# Altium footprint library Connectors.PcbLib: 3 footprints
Each footprint in its own frame and in the unit in brackets; x right, y up, seen from the top. Pads: shape width x height; smd on the part's side, far side on the other; paste and mask are expansions set on the pad; w line width, h text height; cw(c..) or ccw(c..) is an arc to the next point about the centre after c.
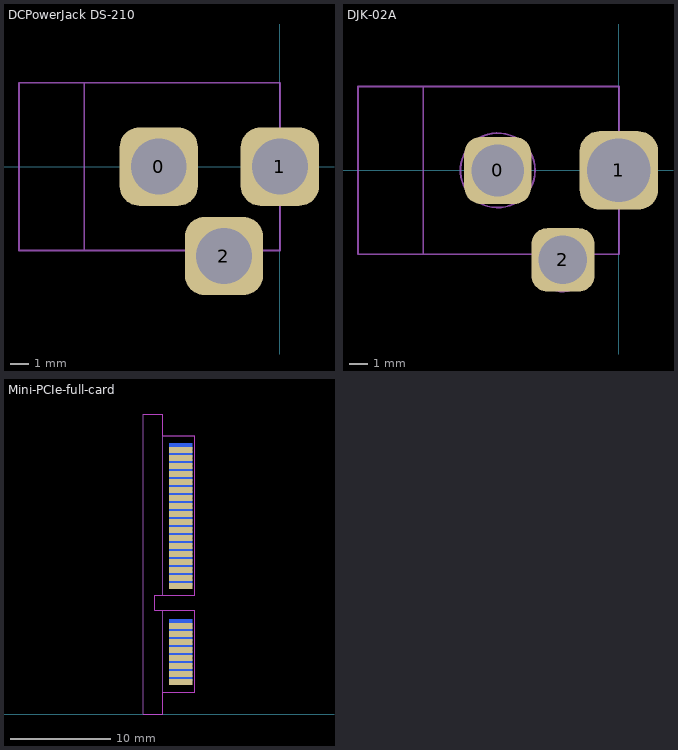
[diagram p0: the footprints below, top view; thin cyan lines are the x and y axes]

## DCPowerJack DS-210 [mm]
pads (3):
  rrect50% 4.2x4.2 hole 3: 0(-6.5,0) 1(0,0) 2(-3,-4.8)
Mechanical 1:
  lines w0.1: -10.5,-4.5 -10.5,4.5 ; -14,-4.5 -14,4.5 0,4.5 0,-4.5 -14,-4.5
Mechanical 4:
  circle w0.1: c0,0 r2
  circle w0.1: c-3,-5 r1.5
  circle w0.1: c-6.5,0 r2
Mechanical 13:
  text ".Designator" at -9.1,2.7 h1
3D body: height 6, standoff 0, extent -4.2,-5 -1.8,-4.5
3D body: height 6, standoff 0, extent 0,-1.2 0.5,1.2
3D body: height 6, standoff 0, extent -10.5,-4.5 0,4.5
3D body: height 9.97, standoff 2, extent -10.5,-3.992 0,3.992
3D body: height 8.98, standoff 3, extent -14,-2.994 -10.5,2.994
3D body: height 11, standoff 0, extent -13.9,-4.5 -10.5,4.5

## DJK-02A [mm]
pads (3):
  rrect50% 3.6x3.6 hole 2.8: 0(-6.5,0)
  rrect50% 4.2x4.2 hole 3.4: 1(0,0)
  rrect50% 3.4x3.4 hole 2.6: 2(-3,-4.8)
Mechanical 1:
  lines w0.1: -10.5,-4.5 -10.5,4.5 ; -14,-4.5 0,-4.5 0,4.5 -14,4.5 -14,-4.5
Mechanical 4:
  circle w0.1: c-6.5,0 r2
  circle w0.1: c-3,-5 r1.5
  circle w0.1: c0,0 r2
Mechanical 13:
  text ".Designator" at -9.1,2.7 h1
3D body: height 11, standoff 0, extent -13.9,-4.5 -10.5,4.5
3D body: height 8.98, standoff 3, extent -14,-2.994 -10.5,2.994
3D body: height 9.97, standoff 2, extent -10.5,-3.992 0,3.992
3D body: height 6, standoff 0, extent -10.5,-4.5 0,4.5
3D body: height 6, standoff 0, extent 0,-1.2 0.5,1.2
3D body: height 6, standoff 0, extent -4.2,-5 -1.8,-4.5

## Mini-PCIe-full-card [mm]
pads (52):
  rect 2.3x0.6 smd: 1(49.55,3.2) 3(49.55,4) 5(49.55,4.8) 7(49.55,5.6) 9(49.55,6.4) 11(49.55,7.2) 13(49.55,8) 15(49.55,8.8) 17(49.55,12.8) 19(49.55,13.6) 21(49.55,14.4) 23(49.55,15.2) 25(49.55,16) 27(49.55,16.8) 29(49.55,17.6) 31(49.55,18.4) 33(49.55,19.2) 35(49.55,20) 37(49.55,20.8) 39(49.55,21.6) 41(49.55,22.4) 43(49.55,23.2) 45(49.55,24) 47(49.55,24.8) 49(49.55,25.6) 51(49.55,26.4)
  rect 2.3x0.6 smd far side: 2(49.55,3.6) 4(49.55,4.4) 6(49.55,5.2) 8(49.55,6) 10(49.55,6.8) 12(49.55,7.6) 14(49.55,8.4) 16(49.55,9.2) 18(49.55,13.2) 20(49.55,14) 22(49.55,14.8) 24(49.55,15.6) 26(49.55,16.4) 28(49.55,17.2) 30(49.55,18) 32(49.55,18.8) 34(49.55,19.6) 36(49.55,20.4) 38(49.55,21.2) 40(49.55,22) 42(49.55,22.8) 44(49.55,23.6) 46(49.55,24.4) 48(49.55,25.2) 50(49.55,26) 52(49.55,26.8)
Keep-Out Layer:
  lines w0.1: 45.8,0 47.75,0 47.75,2.15 50.95,2.15 50.95,10.4 46.95,10.4 46.95,11.9 50.95,11.9 50.95,27.85 47.75,27.85 47.75,29.95 ; 45.8,30 47.7,30
Mechanical 1:
  lines w0.1: 47.75,0 47.75,2.15 ; 47.75,10.35 47.75,2.15 ; 47.75,11.95 47.75,27.85 ; 47.75,29.95 47.75,27.85 ; 47.75,2.15 50.95,2.15 50.95,10.4 46.95,10.4 46.95,11.9 50.95,11.9 50.95,27.85 47.75,27.85
Mechanical 4:
  lines w0.1: 47.75,10.35 47.75,2.15 ; 47.75,11.95 47.75,27.85 ; 47.75,2.15 50.95,2.15 50.95,10.4 46.95,10.4 46.95,11.9 50.95,11.9 50.95,27.85 47.75,27.85 ; 47.75,2.15 47.75,0 45.8,0 45.8,30 47.75,30 47.75,27.85
Mechanical 32:
  lines w0.1: 47.75,0 47.75,2.15 50.95,2.15 50.95,10.4 46.95,10.4 46.95,11.9 50.95,11.9 50.95,27.85 47.75,27.85 47.75,29.95